# EAGLE library part 692121330100 (library Wuerth_Elektronik_eiCan_Communication_Connectors_v2.2)
WR-COM USB 3.0 REVERSE HORIZONTAL TYPE A WITH OFFSET1.75mm
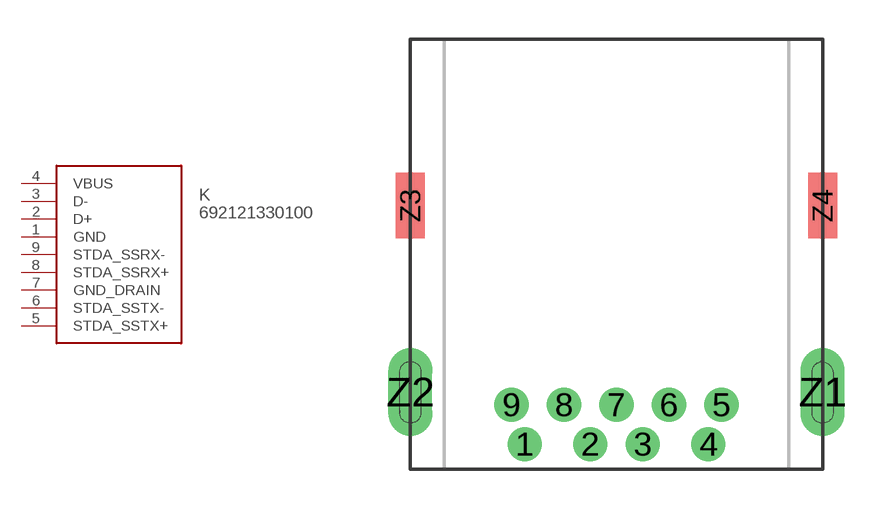
[diagram p20: symbol with the pads of 692121330100; footprint 692121330100]

Designator prefix K

## 692121330100  [692121330100]
1  GND
2  D+
3  D-
4  VBUS
5  STDA_SSTX+
6  STDA_SSTX-
7  GND_DRAIN
8  STDA_SSRX+
9  STDA_SSRX-

## Footprint 692121330100 (pad centres in mm)
WR-COM USB 3.0 REVERSE HORIZONTAL TYPE A WITH OFFSET1.75mm
drill 0.7 pad 1.3: 1 -3.5,0; 2 -1,0; 3 1,0; 4 3.5,0; 5 4,1.5; 6 2,1.5; 7 0,1.5; 8 -2,1.5; 9 -4,1.5
drill 0.8 pad 1.676 long: Z1 7.85,1.98; Z2 -7.85,1.98
smd 1.1 x 2.5: Z3 -7.85,9.08; Z4 7.85,9.08